# Altium footprint library PC817.PcbLib: 1 footprints
Each footprint in its own frame and in the unit in brackets; x right, y up, seen from the top. Pads: shape width x height; smd on the part's side, far side on the other; paste and mask are expansions set on the pad; w line width, h text height; cw(c..) or ccw(c..) is an arc to the next point about the centre after c.
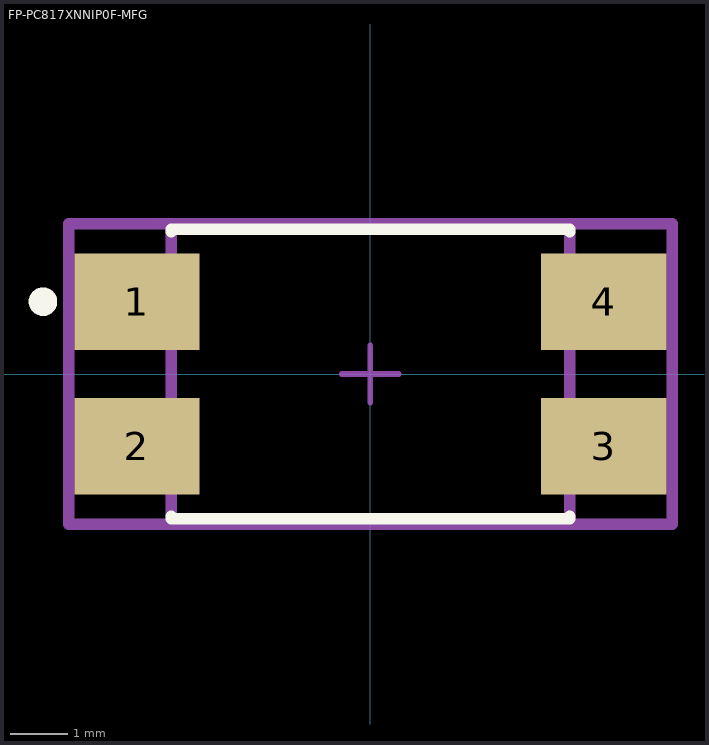
[diagram p0: the footprint, top view; thin cyan lines are the x and y axes]

## FP-PC817XNNIP0F-MFG [mm]
pads (4):
  rect 2.2x1.7 smd paste+0 mask+0: 1(-4.1,1.27) 2(-4.1,-1.27) 3(4.1,-1.27) 4(4.1,1.27)
Top Overlay:
  circle w0.25: c-5.75,1.27 r0.125
  lines w0.2: -3.5,-2.495 -3.5,-2.54 3.5,-2.54 3.5,-2.495 ; -3.5,2.495 -3.5,2.54 3.5,2.54 3.5,2.495
Top Assembly:
  lines w0.2: -5.3,-2.64 -5.3,2.64 5.3,2.64 5.3,-2.64 -5.3,-2.64
  text ".Designator" at 0,0.188 h1
Top 3D Body:
  lines w0.2: -3.5,-2.54 -3.5,2.54 3.5,2.54 3.5,-2.54 -3.5,-2.54
Top Courtyard:
  lines w0.2: -5.3,-2.64 -5.3,2.64 5.3,2.64 5.3,-2.64 -5.3,-2.64
Top Component Center:
  lines w0.1: -0.5,0 0.5,0 ; 0,-0.5 0,0.5
3D body "Trans_SHARP_PC817XNNIP0F_eec.STEP": height 0.25, standoff 0, extent -5.3,-2.64 5.3,2.64